# Altium footprint library KeyBaord_V0.1.PcbLib: 10 footprints
Each footprint in its own frame and in the unit in brackets; x right, y up, seen from the top. Pads: shape width x height; smd on the part's side, far side on the other; paste and mask are expansions set on the pad; w line width, h text height; cw(c..) or ccw(c..) is an arc to the next point about the centre after c.
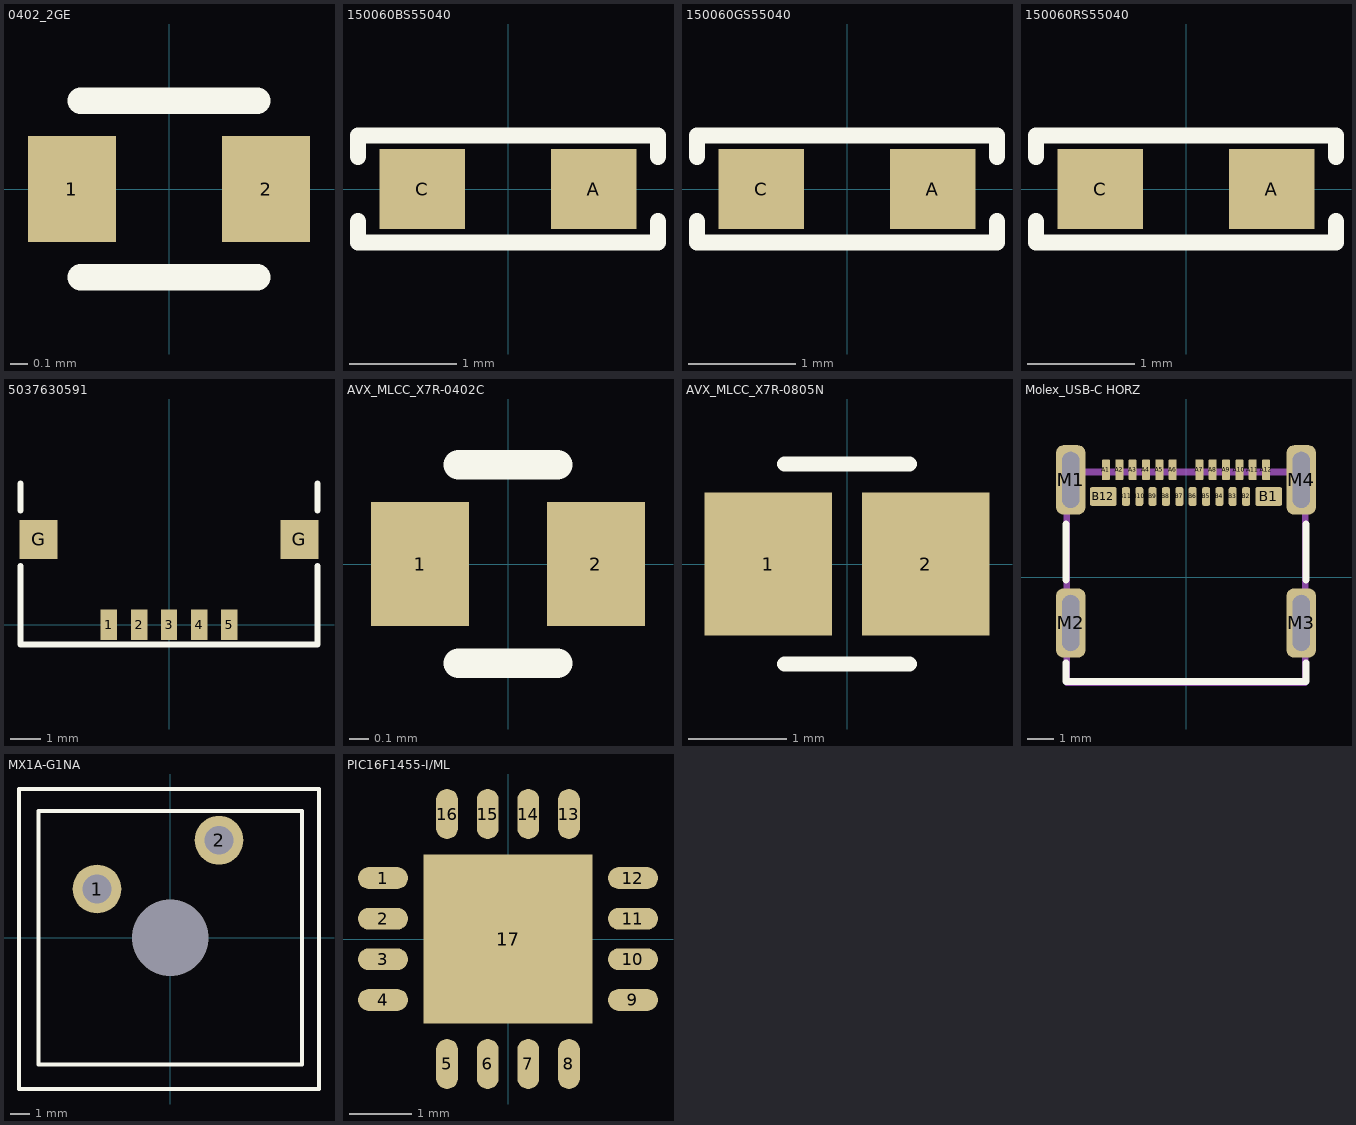
[diagram p0: the footprints below, top view; thin cyan lines are the x and y axes]

## 0402_2GE [mil]
pads (2):
  rect 20x24 smd: 1(-22,0) 2(22,0)
Top Overlay:
  lines w6: -20,-20 20,-20 ; -20,20 20,20
3D body "Panasonic_ERJ_2GE.stp": height 13.78, standoff 0, extent -19.68,-9.84 19.69,9.85

## 150060BS55040 [mm] "0603"
pads (2):
  rect 0.8x0.75 smd: A(0.8,0) C(-0.8,0)
Top Overlay:
  lines w0.152: -1.4,-0.3 -1.4,-0.5 1.4,-0.5 1.4,-0.3 ; -1.4,0.3 -1.4,0.5 1.4,0.5 1.4,0.3
3D body "150060BS55040.stp": height 0.4, standoff 0, extent -0.8,-0.4 0.8,0.4

## 150060GS55040 [mm] "0603"
pads (2):
  rect 0.8x0.75 smd: A(0.8,0) C(-0.8,0)
Top Overlay:
  lines w0.152: -1.4,-0.3 -1.4,-0.5 1.4,-0.5 1.4,-0.3 ; -1.4,0.3 -1.4,0.5 1.4,0.5 1.4,0.3
3D body "150060GS55040.stp": height 0.4, standoff 0, extent -0.8,-0.4 0.8,0.4

## 150060RS55040 [mm] "0603"
pads (2):
  rect 0.8x0.75 smd: A(0.8,0) C(-0.8,0)
Top Overlay:
  lines w0.152: -1.4,-0.3 -1.4,-0.5 1.4,-0.5 1.4,-0.3 ; -1.4,0.3 -1.4,0.5 1.4,0.5 1.4,0.3
3D body "150060RS55040.stp": height 0.4, standoff 0, extent -0.8,-0.4 0.8,0.4

## 5037630591 [mm]
pads (7):
  rect 0.55x1 smd: 1(-2,0) 2(-1,0) 3(0,0) 4(1,0) 5(2,0)
  rect 1.26x1.3 smd: G(-4.35,2.85) G(4.35,2.85)
Top Overlay:
  lines w0.2: -4.95,1.95 -4.95,-0.65 4.95,-0.65 4.95,1.95 ; -4.95,3.8 -4.95,4.7 ; 4.95,3.8 4.95,4.7
3D body "5037630591.stp": height 1.48, standoff -0.02, extent -4.8,-0.49 4.8,4.7

## AVX_MLCC_X7R-0402C [mm] "AVX_MLCC_X7R-0402C"
pads (2):
  rect 0.5x0.635 smd: 1(-0.45,0) 2(0.45,0)
Top Overlay:
  lines w0.152: -0.254,-0.508 0.254,-0.508 ; -0.254,0.508 0.254,0.508
3D body "AVX_MLCC_X7R-0402C.stp": height 0.56, standoff 0, extent -0.5,-0.251 0.5,0.251

## AVX_MLCC_X7R-0805N [mm] "AVX_MLCC_X7R-0805N"
pads (2):
  rect 1.3x1.45 smd: 1(-0.8,0) 2(0.8,0)
Top Overlay:
  lines w0.152: -0.635,-1.016 0.635,-1.016 ; -0.635,1.016 0.635,1.016
3D body "AVX_MLCC_X7R-0805N.stp": height 1.4, standoff 0, extent -1.005,-0.626 1.005,0.626

## Molex_USB-C HORZ [mm] "CONN USB TYPE C RT. ANGLE JACK"
height 5.08
pads (28):
  rrect20% 0.3x0.76 smd: A1(-3,4.03) A2(-2.5,4.03) A3(-2,4.03) A4(-1.5,4.03) A5(-1,4.03) A6(-0.5,4.03) A7(0.5,4.03) A8(1,4.03) A9(1.5,4.03) A10(2,4.03) A11(2.5,4.03) A12(3,4.03)
  rrect20% 1x0.7 smd: B1(3.1,3.03) B12(-3.1,3.03)
  rrect50% 0.3x0.7 smd: B2(2.25,3.03) B3(1.75,3.03) B4(1.25,3.03) B5(0.75,3.03) B6(0.25,3.03) B7(-0.25,3.03) B8(-0.75,3.03) B9(-1.25,3.03) B10(-1.75,3.03) B11(-2.25,3.03)
  rrect50% 1.1x2.6 hole 0.65 slot 2.1 at 90 deg: M1(-4.32,3.65) M2(-4.32,-1.71) M3(4.32,-1.71) M4(4.32,3.65)
Top Overlay:
  lines w0.254: -4.5,-3.2 -4.5,-3.9 4.5,-3.9 4.5,-3.2 ; -4.5,-0.1 -4.5,2 ; 4.5,-0.1 4.5,2
Top Courtyard:
  lines w0.254: -4.47,-3.95 4.47,-3.95 4.47,3.95 -4.47,3.95 -4.47,-3.95
3D body "Molex_1054500101.stp": height 3.2, standoff -0.76, extent -4.47,-3.7 4.47,4.2

## MX1A-G1NA [mm]
pads (3):
  round 2.54 hole 1.5: 1(-3.81,2.54) 2(2.54,5.08)
  round 0 hole 4: 3(0,0)
Top Overlay:
  lines w0.2: -7.874,-7.874 7.747,-7.874 7.747,7.747 -7.874,7.747 -7.874,-7.874 ; -6.858,-6.604 -6.858,6.604 6.858,6.604 6.858,-6.604 -6.858,-6.604
3D body "asm_mx_asm_PLATE.stp": height 15.54, standoff -3.06, extent -7.807,-7.807 7.793,7.793

## PIC16F1455-I/ML [mm]
pads (17):
  rrect100% 0.8x0.35 smd: 1(-2,0.975) 2(-2,0.325) 3(-2,-0.325) 4(-2,-0.975) 9(2,-0.975) 10(2,-0.325) 11(2,0.325) 12(2,0.975)
  rrect100% 0.35x0.8 smd: 5(-0.975,-2) 6(-0.325,-2) 7(0.325,-2) 8(0.975,-2) 13(0.975,2) 14(0.325,2) 15(-0.325,2) 16(-0.975,2)
  rect 2.7x2.7 smd: 17(0,0)
3D body "PIC16FL1455.stp": height 0.5, standoff 0, extent -2,-2 2,2